# EAGLE library part NHD-C0216CIZ-FN-FBW-3V (library nhd-cog)
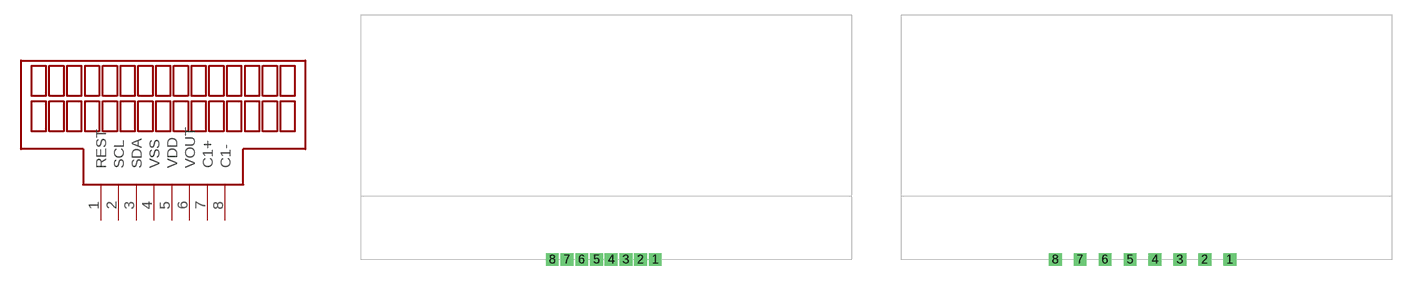
[diagram p0: symbol with the pads of SIL8-1.5; footprints SIL8-1.5, SIL8-2.54]

Designator prefix -

## NHD-C0216CIZ-FN-FBW-3V  [SIL8-1.5]
1  REST
2  SCL
3  SDA
4  VSS  pwr
5  VDD  pwr
6  VOUT  out
7  C1+
8  C1-

## NHD-C0216CIZ-FN-FBW-3VSIL8-2.54  [SIL8-2.54]
Pads as for SIL8-1.5

## Footprint SIL8-1.5 (pad centres in mm)
drill 0.8 square: 1 10.5,0; 2 9,0; 3 7.5,0; 4 6,0; 5 4.5,0; 6 3,0; 7 1.5,0; 8 0,0

## Footprint SIL8-2.54 (pad centres in mm)
drill 0.8 square: 1 7.62,-5.08; 2 5.08,-5.08; 3 2.54,-5.08; 4 0,-5.08; 5 -2.54,-5.08; 6 -5.08,-5.08; 7 -7.62,-5.08; 8 -10.16,-5.08